# Altium schematic symbol library IR4427STRPBF.Schlib: 1 symbol
Pins are listed as number, name and electrical type; pins without a type are passive.

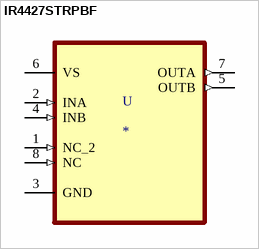
[diagram p0: symbol IR4427STRPBF]

## IR4427STRPBF
designator U
Low-Side Gate Driver IC Non-Inverting 8-SOIC
pins: 1 NC_2 (in), 2 INA (in), 3 GND, 4 INB (in), 5 OUTB (out), 6 VS (power), 7 OUTA (out), 8 NC (in)